# Altium schematic symbol library 天线.SchLib: 2 symbols
Pins are listed as number, name and electrical type; pins without a type are passive.

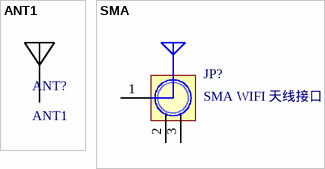
[diagram p0: symbols ANT1 to SMA]

## ANT1
designator ANT?
PCB板载天线; 版权归属: 源创客; BOM名称: PCB板载天线; 学习资源: www.ooocke.com
footprint 2.4GANTF0
footprint 2.4GANTF1
footprint 2.4GANTF2
footprint 2.4GANTF3
footprint 2.4GANTF4
footprint 2.4GANTS0
footprint 2.4GANTS8
footprint 2.4GANTS9
footprint WIFI-ANT
footprint ANT2.4G-IFA-AN043-TI
footprint ANT2.4G-IFA-DN007-TI (IFA for CC2530/CC2540)
footprint ANT-PCB-2.4G
footprint ANT-PCB-2.4G-DA14580
footprint ANT-PCB-2.4G_IFA
pins: 1

## SMA
designator JP?, comment SMA WIFI 天线接口
SMA-2.4G射频天线接口; 版权归属: 源创客; BOM名称: SMA-2.4G射频天线接口; 学习资源: www.ooocke.com
footprint SMA_FR
footprint SMA-KE (Footprint not found)
footprint SMA-KE-LI (SMA 立式直插射频天线座)
footprint SMA_IPEX (Footprint not found)
pins: 1 ANT, 2 GND, 3 GND